# Altium schematic symbol library INA231.Schlib: 1 symbol
Pins are listed as number, name and electrical type; pins without a type are passive.

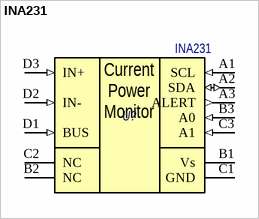
[diagram p0: symbol INA231]

## INA231
designator U?
High- or Low-Side Measurement, Bidirectional Current and Power Monitor With 1.8-V I2C Interface; Назначение: Монитор параметров питания; Потребление, Вт: 0,001; Наименование: INA231
footprint DSBGA-12 (1.65x1.39x0.62)
pins: A1 SCL (in), A2 SDA (io), A3 ALERT (out), B1 Vs (power), B2 NC (hiz), B3 A0 (in), C1 GND (power), C2 NC (hiz), C3 A1 (in), D1 BUS (in), D2 IN- (in), D3 IN+ (in)
text: Current / Power / Monitor